# Altium footprint library DO-214AA.PcbLib: 1 footprints
Each footprint in its own frame and in the unit in brackets; x right, y up, seen from the top. Pads: shape width x height; smd on the part's side, far side on the other; paste and mask are expansions set on the pad; w line width, h text height; cw(c..) or ccw(c..) is an arc to the next point about the centre after c.
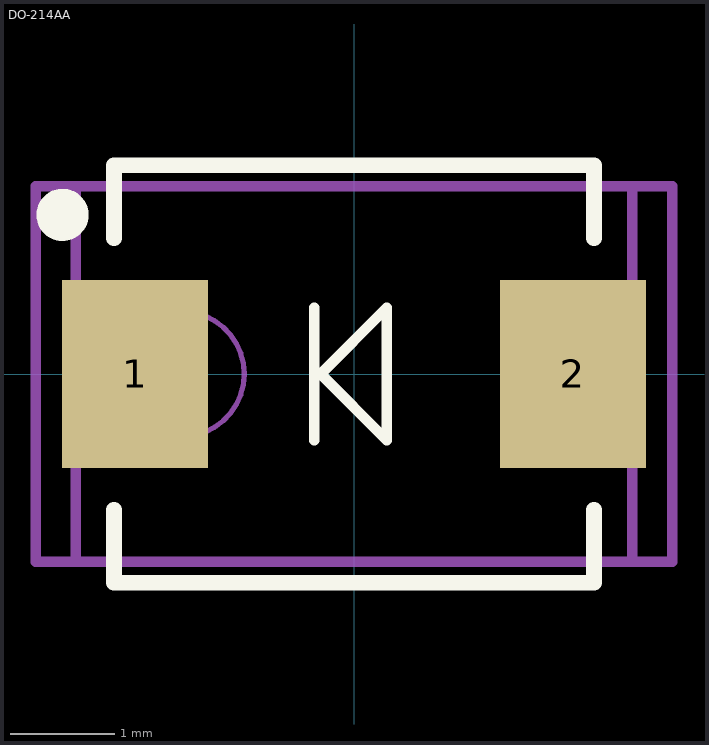
[diagram p0: the footprint, top view; thin cyan lines are the x and y axes]

## DO-214AA [mm] "Pitch4.195mm Body 4.58X3.95mm High3.12mm"
height 3.12
pads (2):
  rect 1.4x1.8 smd: 1(-2.097,0) 2(2.098,0)
Top Overlay:
  circle w0.25: c-2.792,1.524 r0.125
  lines w0.1: -0.381,-0.635 -0.381,0.635 ; -0.319,0 0.316,-0.635 0.316,0.635 -0.319,0
  lines w0.152: -2.3,-1.3 -2.3,-2 2.3,-2 2.3,-1.3 ; -2.3,1.3 -2.3,2 2.3,2 2.3,1.3
Mechanical 13:
  circle w0.05: c-1.651,0 r0.6
  lines w0.1: -2.667,-1.8 -2.667,1.8 2.667,1.8 2.667,-1.8 -2.667,-1.8
Mechanical 15:
  lines w0.1: -3.048,-1.8 3.048,-1.8 3.048,1.8 -3.048,1.8 -3.048,-1.8
3D body: height 2.45, standoff 0.03, extent -2.75,-1.95 2.75,1.95